# Altium integrated library Linear Technology Charge_Pump.IntLib: 599 symbols (part 22 of 29)
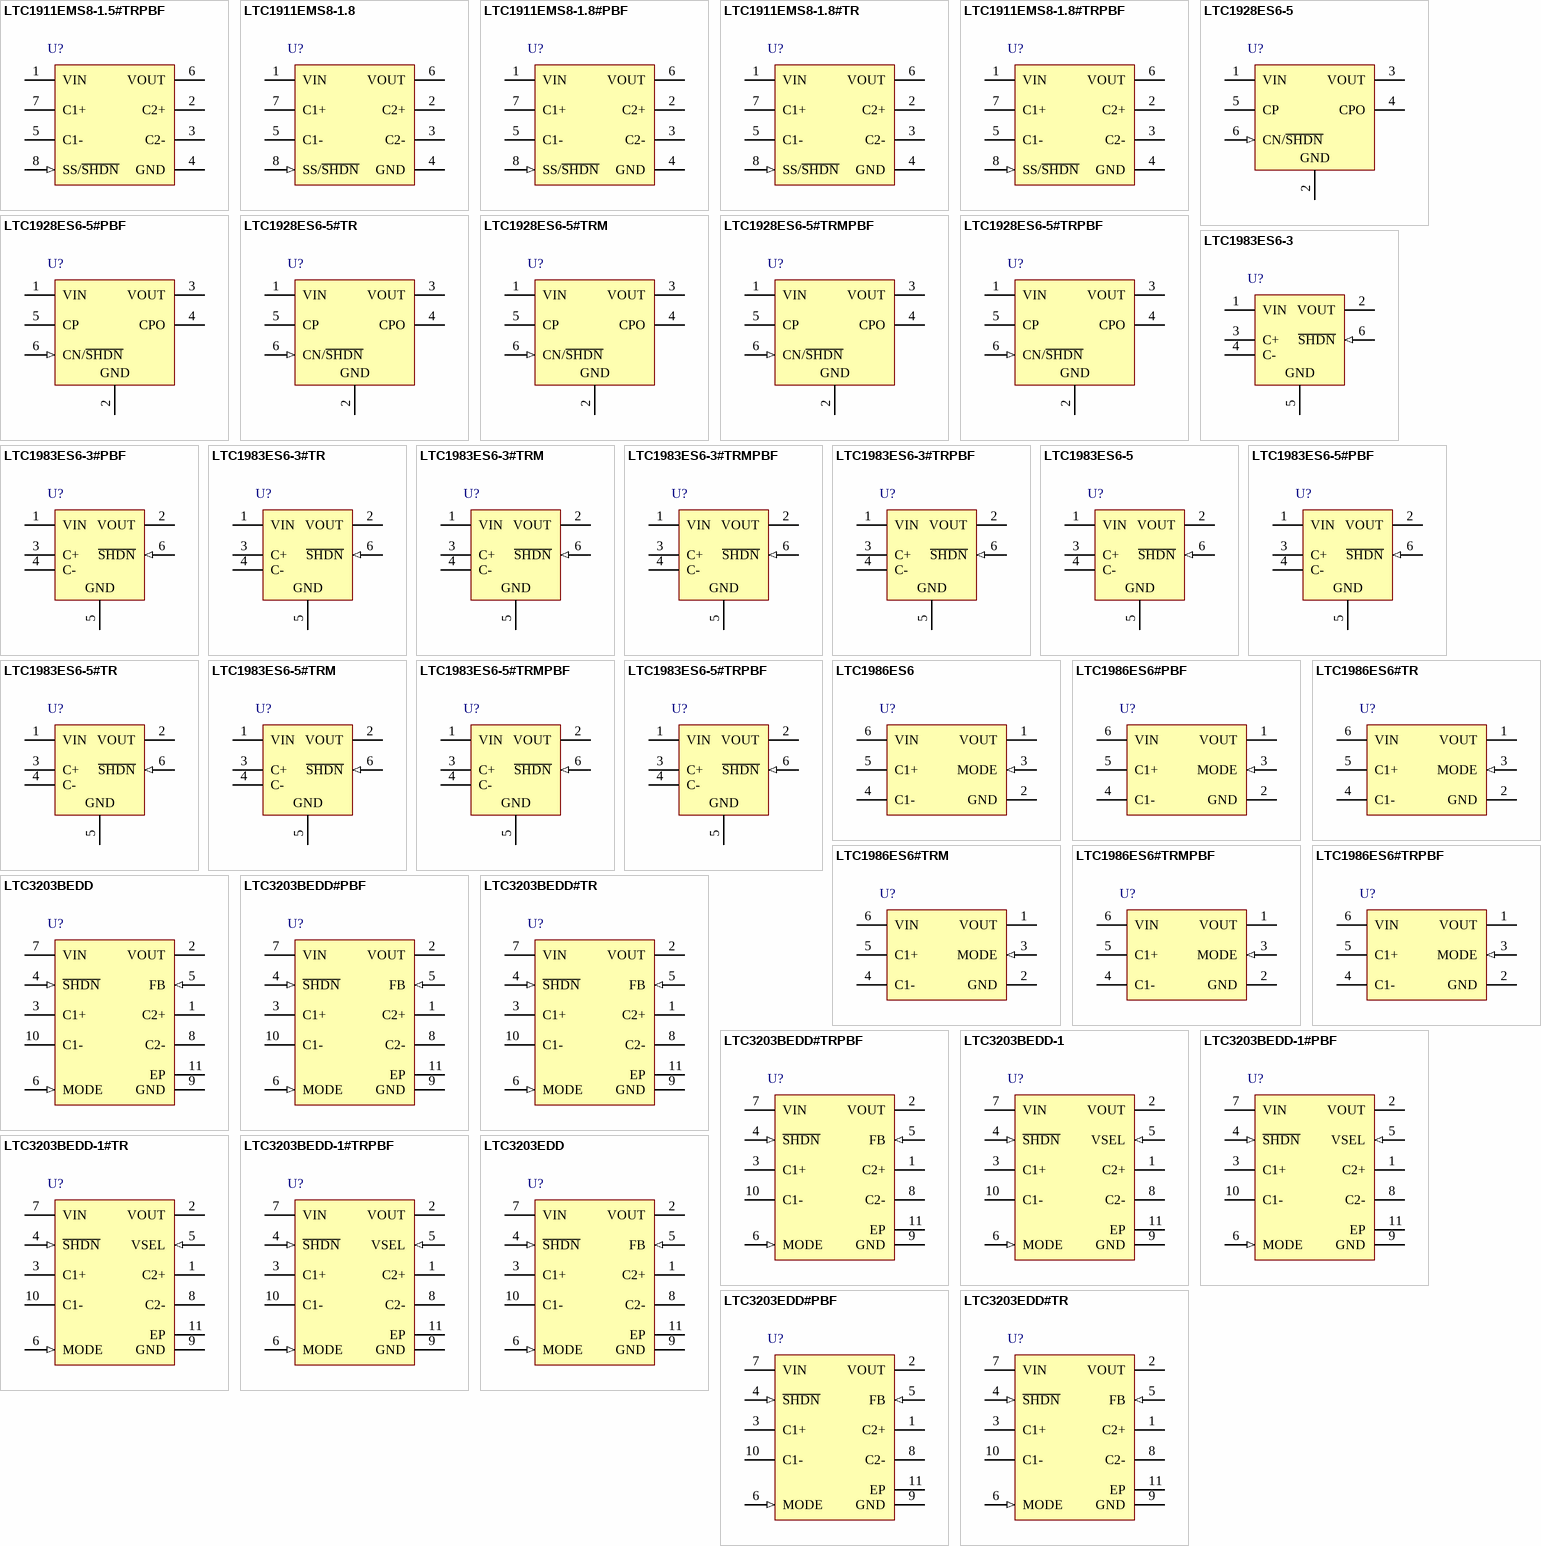
[diagram p37: symbols LTC1911EMS8-1.5#TRPBF to LTC3203EDD#TR]

## LTC1928ES6-5#TRM
designator U?
Doubler Charge Pump with Low Noise Linear Regulator, 2.7 to 4.4 V Vin, 5 V Vout, 6-pin SOT23 (S6-6), -40 to 85 degC, Mini Tape and Reel; Manufacturer: Linear Technology; PartNumber: LTC1928ES6-5#TRM; Frequency(kHz): 550; Ishutdown(uA): 4; Isupply(mA): 0.19; Max Iout(mA): 30; Vin Max(V): 4.4; Vin Min(V): 2.7; Voutput: 5 V; PackageVersion: Jun-10; PackageReference: S6-6; PackageDescription: 6-Pin Plastic TSOT-23, Body 2.9 x 1.63 mm, Pitch 0.95 mm; Supplier 1: Digi-Key; Supplier Part Number 1: LTC1928ES6-5#TRM-ND; Packing: Mini Tape and Reel; RoHS: FALSE; Mounting Technology: Surface Mount; Code_JEDEC: MO-193; ComponentLink1Description: Manufacturer URL; ComponentLink1URL: http://www.linear.com/; ComponentLink2Description: Datasheet; ComponentLink2URL: http://cds.linear.com/docs/en/datasheet/19285f.pdf; ComponentLink3Description: Package Specification; ComponentLink3URL: http://cds.linear.com/docs/en/packaging/SOT_6_05-08-1636.pdf
footprint LT-S6-6-TSOT-23_N (SOT23, 6-Leads, Body 2.9x1.75mm, Pitch 0.95mm, IPC Medium Density)
footprint LT-S6-6-TSOT-23_L (SOT23, 6-Leads, Body 2.9x1.75mm, Pitch 0.95mm, IPC High Density)
footprint LT-S6-6-TSOT-23_M (SOT23, 6-Leads, Body 2.9x1.75mm, Pitch 0.95mm, IPC Low Density)
pins: 1 VIN (power) "Input Voltage, 2.7V to 4.4V. VIN should be bypassed with a>=2uF low ESR capacitor as close to the pin as possible for best performance. A minimum capacitance value of 0.1uF is required.", 2 GND (power) "System Ground.", 3 VOUT (power) "Low Noise Regulated Output Voltage. VOUT should be bypassed with a>=2uF low ESR capacitor as close to the pin as possible for best performance. The VOUT voltage is internally set to 5V.", 4 CPO "Boosted Unregulated Voltage. Approximately 1.95VIN at low loads. Bypass with a>=2uF low ESR capacitor.", 5 CP "Flying Capacitor Positive Input.", 6 CN/~{SHDN} (in) "Flying Capacitor Negative Input and S\H\D\N\. When this pin is pulled to ground through a 100ohm resistor, the part will go into shutdown within approximately 30us."

## LTC1928ES6-5#TRMPBF
designator U?
Doubler Charge Pump with Low Noise Linear Regulator, 2.7 to 4.4 V Vin, 5 V Vout, 6-pin SOT23 (S6-6), -40 to 85 degC, Pb-Free, Mini Tape and Reel; Manufacturer: Linear Technology; PartNumber: LTC1928ES6-5#TRMPBF; Frequency(kHz): 550; Ishutdown(uA): 4; Isupply(mA): 0.19; Max Iout(mA): 30; Vin Max(V): 4.4; Vin Min(V): 2.7; Voutput: 5 V; PackageVersion: Jun-10; PackageReference: S6-6; PackageDescription: 6-Pin Plastic TSOT-23, Body 2.9 x 1.63 mm, Pitch 0.95 mm; Supplier 1: Digi-Key; Supplier Part Number 1: LTC1928ES6-5#TRMPBFTR-ND; Supplier 2: Digi-Key; Supplier Part Number 2: LTC1928ES6-5#TRMPBFCT-ND; Supplier 3: Digi-Key; Supplier Part Number 3: LTC1928ES6-5#TRMPBFDKR-ND; Packing: Mini Tape and Reel; RoHS: TRUE; Mounting Technology: Surface Mount; Code_JEDEC: MO-193; ComponentLink1Description: Manufacturer URL; ComponentLink1URL: http://www.linear.com/; ComponentLink2Description: Datasheet; ComponentLink2URL: http://cds.linear.com/docs/en/datasheet/19285f.pdf; ComponentLink3Description: Package Specification; ComponentLink3URL: http://cds.linear.com/docs/en/packaging/SOT_6_05-08-1636.pdf
footprint LT-S6-6-TSOT-23_N (SOT23, 6-Leads, Body 2.9x1.75mm, Pitch 0.95mm, IPC Medium Density)
footprint LT-S6-6-TSOT-23_L (SOT23, 6-Leads, Body 2.9x1.75mm, Pitch 0.95mm, IPC High Density)
footprint LT-S6-6-TSOT-23_M (SOT23, 6-Leads, Body 2.9x1.75mm, Pitch 0.95mm, IPC Low Density)
pins: 1 VIN (power) "Input Voltage, 2.7V to 4.4V. VIN should be bypassed with a>=2uF low ESR capacitor as close to the pin as possible for best performance. A minimum capacitance value of 0.1uF is required.", 2 GND (power) "System Ground.", 3 VOUT (power) "Low Noise Regulated Output Voltage. VOUT should be bypassed with a>=2uF low ESR capacitor as close to the pin as possible for best performance. The VOUT voltage is internally set to 5V.", 4 CPO "Boosted Unregulated Voltage. Approximately 1.95VIN at low loads. Bypass with a>=2uF low ESR capacitor.", 5 CP "Flying Capacitor Positive Input.", 6 CN/~{SHDN} (in) "Flying Capacitor Negative Input and S\H\D\N\. When this pin is pulled to ground through a 100ohm resistor, the part will go into shutdown within approximately 30us."

## LTC1928ES6-5#TRPBF
designator U?
Doubler Charge Pump with Low Noise Linear Regulator, 2.7 to 4.4 V Vin, 5 V Vout, 6-pin SOT23 (S6-6), -40 to 85 degC, Pb-Free, Tape and Reel; Manufacturer: Linear Technology; PartNumber: LTC1928ES6-5#TRPBF; Frequency(kHz): 550; Ishutdown(uA): 4; Isupply(mA): 0.19; Max Iout(mA): 30; Vin Max(V): 4.4; Vin Min(V): 2.7; Voutput: 5 V; PackageVersion: Jun-10; PackageReference: S6-6; PackageDescription: 6-Pin Plastic TSOT-23, Body 2.9 x 1.63 mm, Pitch 0.95 mm; Supplier 1: Digi-Key; Supplier Part Number 1: LTC1928ES6-5#TRPBF-ND; Packing: Tape and Reel; RoHS: TRUE; Mounting Technology: Surface Mount; Code_JEDEC: MO-193; ComponentLink1Description: Manufacturer URL; ComponentLink1URL: http://www.linear.com/; ComponentLink2Description: Datasheet; ComponentLink2URL: http://cds.linear.com/docs/en/datasheet/19285f.pdf; ComponentLink3Description: Package Specification; ComponentLink3URL: http://cds.linear.com/docs/en/packaging/SOT_6_05-08-1636.pdf
footprint LT-S6-6-TSOT-23_N (SOT23, 6-Leads, Body 2.9x1.75mm, Pitch 0.95mm, IPC Medium Density)
footprint LT-S6-6-TSOT-23_L (SOT23, 6-Leads, Body 2.9x1.75mm, Pitch 0.95mm, IPC High Density)
footprint LT-S6-6-TSOT-23_M (SOT23, 6-Leads, Body 2.9x1.75mm, Pitch 0.95mm, IPC Low Density)
pins: 1 VIN (power) "Input Voltage, 2.7V to 4.4V. VIN should be bypassed with a>=2uF low ESR capacitor as close to the pin as possible for best performance. A minimum capacitance value of 0.1uF is required.", 2 GND (power) "System Ground.", 3 VOUT (power) "Low Noise Regulated Output Voltage. VOUT should be bypassed with a>=2uF low ESR capacitor as close to the pin as possible for best performance. The VOUT voltage is internally set to 5V.", 4 CPO "Boosted Unregulated Voltage. Approximately 1.95VIN at low loads. Bypass with a>=2uF low ESR capacitor.", 5 CP "Flying Capacitor Positive Input.", 6 CN/~{SHDN} (in) "Flying Capacitor Negative Input and S\H\D\N\. When this pin is pulled to ground through a 100ohm resistor, the part will go into shutdown within approximately 30us."

## LTC1983ES6-3
designator U?
100 mA Regulated Charge-Pump Inverter, 3 to 5.5 V Vin, -3 V Vout, 6-pin SOT23 (S6-6), -40 to 85 degC; Manufacturer: Linear Technology; PartNumber: LTC1983ES6-3; Frequency(kHz): 900; Ishutdown(uA): 0.1; Isupply(mA): 0.025; Max Iout(mA): 100; Vin Max(V): 5.5; Vin Min(V): 3; Voutput: -3 V; DatasheetVersion: Rev. A; PackageVersion: Jun-10; PackageReference: S6-6; PackageDescription: 6-Pin Plastic TSOT-23, Body 2.9 x 1.63 mm, Pitch 0.95 mm; RoHS: FALSE; Mounting Technology: Surface Mount; Code_JEDEC: MO-193; ComponentLink1Description: Manufacturer URL; ComponentLink1URL: http://www.linear.com/; ComponentLink2Description: Datasheet; ComponentLink2URL: http://cds.linear.com/docs/en/datasheet/1983fa.pdf; ComponentLink3Description: Package Specification; ComponentLink3URL: http://cds.linear.com/docs/en/packaging/SOT_6_05-08-1636.pdf
footprint LT-S6-6-TSOT-23_N (SOT23, 6-Leads, Body 2.9x1.75mm, Pitch 0.95mm, IPC Medium Density)
footprint LT-S6-6-TSOT-23_L (SOT23, 6-Leads, Body 2.9x1.75mm, Pitch 0.95mm, IPC High Density)
footprint LT-S6-6-TSOT-23_M (SOT23, 6-Leads, Body 2.9x1.75mm, Pitch 0.95mm, IPC Low Density)
pins: 1 VIN (power) "Charge Pump Input Voltage. May be between 2.3V and 5.5V. VIN should be bypassed with a >= 4.7 uF low ESR capacitor as close as possible to the pin for best performance", 2 VOUT (power) "Regulated Output Voltage for the IC. VOUT should be bypassed with a >= 4.7 uF low ESR capacitor as close as possible to the pin for best performance", 3 C+ "Charge Pump Flying Capacitor Positive Terminal. This node is switched between VIN and GND (It is connected to VCC during shutdown)", 4 C- "Charge Pump Flying Capacitor Negative Terminal. This node is switched between GND and VOUT (It is connected to GND during shutdown)", 5 GND (power) "Signal and Power Ground for the 6-Pin SOT-23 package. This pin should be tied to a ground plane for best performance", 6 ~{SHDN} (in) "Shutdown. Grounding this pin shuts down the IC. Tie to VIN to enable. This pin should not be pulled above the VIN voltage or below GND"

## LTC1983ES6-3#PBF
designator U?
100 mA Regulated Charge-Pump Inverter, 3 to 5.5 V Vin, -3 V Vout, 6-pin SOT23 (S6-6), -40 to 85 degC, Pb-Free; Manufacturer: Linear Technology; PartNumber: LTC1983ES6-3#PBF; Frequency(kHz): 900; Ishutdown(uA): 0.1; Isupply(mA): 0.025; Max Iout(mA): 100; Vin Max(V): 5.5; Vin Min(V): 3; Voutput: -3 V; DatasheetVersion: Rev. A; PackageVersion: Jun-10; PackageReference: S6-6; PackageDescription: 6-Pin Plastic TSOT-23, Body 2.9 x 1.63 mm, Pitch 0.95 mm; Supplier 1: Farnell; Supplier Part Number 1: 2295020; Supplier 2: Newark; Supplier Part Number 2: 25R3033; RoHS: TRUE; Mounting Technology: Surface Mount; Code_JEDEC: MO-193; ComponentLink1Description: Manufacturer URL; ComponentLink1URL: http://www.linear.com/; ComponentLink2Description: Datasheet; ComponentLink2URL: http://cds.linear.com/docs/en/datasheet/1983fa.pdf; ComponentLink3Description: Package Specification; ComponentLink3URL: http://cds.linear.com/docs/en/packaging/SOT_6_05-08-1636.pdf
footprint LT-S6-6-TSOT-23_N (SOT23, 6-Leads, Body 2.9x1.75mm, Pitch 0.95mm, IPC Medium Density)
footprint LT-S6-6-TSOT-23_L (SOT23, 6-Leads, Body 2.9x1.75mm, Pitch 0.95mm, IPC High Density)
footprint LT-S6-6-TSOT-23_M (SOT23, 6-Leads, Body 2.9x1.75mm, Pitch 0.95mm, IPC Low Density)
pins: 1 VIN (power) "Charge Pump Input Voltage. May be between 2.3V and 5.5V. VIN should be bypassed with a >= 4.7 uF low ESR capacitor as close as possible to the pin for best performance", 2 VOUT (power) "Regulated Output Voltage for the IC. VOUT should be bypassed with a >= 4.7 uF low ESR capacitor as close as possible to the pin for best performance", 3 C+ "Charge Pump Flying Capacitor Positive Terminal. This node is switched between VIN and GND (It is connected to VCC during shutdown)", 4 C- "Charge Pump Flying Capacitor Negative Terminal. This node is switched between GND and VOUT (It is connected to GND during shutdown)", 5 GND (power) "Signal and Power Ground for the 6-Pin SOT-23 package. This pin should be tied to a ground plane for best performance", 6 ~{SHDN} (in) "Shutdown. Grounding this pin shuts down the IC. Tie to VIN to enable. This pin should not be pulled above the VIN voltage or below GND"

## LTC1983ES6-3#TR
designator U?
100 mA Regulated Charge-Pump Inverter, 3 to 5.5 V Vin, -3 V Vout, 6-pin SOT23 (S6-6), -40 to 85 degC, Tape and Reel; Manufacturer: Linear Technology; PartNumber: LTC1983ES6-3#TR; Frequency(kHz): 900; Ishutdown(uA): 0.1; Isupply(mA): 0.025; Max Iout(mA): 100; Vin Max(V): 5.5; Vin Min(V): 3; Voutput: -3 V; DatasheetVersion: Rev. A; PackageVersion: Jun-10; PackageReference: S6-6; PackageDescription: 6-Pin Plastic TSOT-23, Body 2.9 x 1.63 mm, Pitch 0.95 mm; Supplier 1: Digi-Key; Supplier Part Number 1: LTC1983ES6-3TR-ND; Packing: Tape and Reel; RoHS: FALSE; Mounting Technology: Surface Mount; Code_JEDEC: MO-193; ComponentLink1Description: Manufacturer URL; ComponentLink1URL: http://www.linear.com/; ComponentLink2Description: Datasheet; ComponentLink2URL: http://cds.linear.com/docs/en/datasheet/1983fa.pdf; ComponentLink3Description: Package Specification; ComponentLink3URL: http://cds.linear.com/docs/en/packaging/SOT_6_05-08-1636.pdf
footprint LT-S6-6-TSOT-23_N (SOT23, 6-Leads, Body 2.9x1.75mm, Pitch 0.95mm, IPC Medium Density)
footprint LT-S6-6-TSOT-23_L (SOT23, 6-Leads, Body 2.9x1.75mm, Pitch 0.95mm, IPC High Density)
footprint LT-S6-6-TSOT-23_M (SOT23, 6-Leads, Body 2.9x1.75mm, Pitch 0.95mm, IPC Low Density)
pins: 1 VIN (power) "Charge Pump Input Voltage. May be between 2.3V and 5.5V. VIN should be bypassed with a >= 4.7 uF low ESR capacitor as close as possible to the pin for best performance", 2 VOUT (power) "Regulated Output Voltage for the IC. VOUT should be bypassed with a >= 4.7 uF low ESR capacitor as close as possible to the pin for best performance", 3 C+ "Charge Pump Flying Capacitor Positive Terminal. This node is switched between VIN and GND (It is connected to VCC during shutdown)", 4 C- "Charge Pump Flying Capacitor Negative Terminal. This node is switched between GND and VOUT (It is connected to GND during shutdown)", 5 GND (power) "Signal and Power Ground for the 6-Pin SOT-23 package. This pin should be tied to a ground plane for best performance", 6 ~{SHDN} (in) "Shutdown. Grounding this pin shuts down the IC. Tie to VIN to enable. This pin should not be pulled above the VIN voltage or below GND"

## LTC1983ES6-3#TRM
designator U?
100 mA Regulated Charge-Pump Inverter, 3 to 5.5 V Vin, -3 V Vout, 6-pin SOT23 (S6-6), -40 to 85 degC, Mini Tape and Reel; Manufacturer: Linear Technology; PartNumber: LTC1983ES6-3#TRM; Frequency(kHz): 900; Ishutdown(uA): 0.1; Isupply(mA): 0.025; Max Iout(mA): 100; Vin Max(V): 5.5; Vin Min(V): 3; Voutput: -3 V; DatasheetVersion: Rev. A; PackageVersion: Jun-10; PackageReference: S6-6; PackageDescription: 6-Pin Plastic TSOT-23, Body 2.9 x 1.63 mm, Pitch 0.95 mm; Supplier 1: Digi-Key; Supplier Part Number 1: LTC1983ES6-3#TRMTR-ND; Supplier 2: Digi-Key; Supplier Part Number 2: LTC1983ES6-3#TRMCT-ND; Packing: Mini Tape and Reel; RoHS: FALSE; Mounting Technology: Surface Mount; Code_JEDEC: MO-193; ComponentLink1Description: Manufacturer URL; ComponentLink1URL: http://www.linear.com/; ComponentLink2Description: Datasheet; ComponentLink2URL: http://cds.linear.com/docs/en/datasheet/1983fa.pdf; ComponentLink3Description: Package Specification; ComponentLink3URL: http://cds.linear.com/docs/en/packaging/SOT_6_05-08-1636.pdf
footprint LT-S6-6-TSOT-23_N (SOT23, 6-Leads, Body 2.9x1.75mm, Pitch 0.95mm, IPC Medium Density)
footprint LT-S6-6-TSOT-23_L (SOT23, 6-Leads, Body 2.9x1.75mm, Pitch 0.95mm, IPC High Density)
footprint LT-S6-6-TSOT-23_M (SOT23, 6-Leads, Body 2.9x1.75mm, Pitch 0.95mm, IPC Low Density)
pins: 1 VIN (power) "Charge Pump Input Voltage. May be between 2.3V and 5.5V. VIN should be bypassed with a >= 4.7 uF low ESR capacitor as close as possible to the pin for best performance", 2 VOUT (power) "Regulated Output Voltage for the IC. VOUT should be bypassed with a >= 4.7 uF low ESR capacitor as close as possible to the pin for best performance", 3 C+ "Charge Pump Flying Capacitor Positive Terminal. This node is switched between VIN and GND (It is connected to VCC during shutdown)", 4 C- "Charge Pump Flying Capacitor Negative Terminal. This node is switched between GND and VOUT (It is connected to GND during shutdown)", 5 GND (power) "Signal and Power Ground for the 6-Pin SOT-23 package. This pin should be tied to a ground plane for best performance", 6 ~{SHDN} (in) "Shutdown. Grounding this pin shuts down the IC. Tie to VIN to enable. This pin should not be pulled above the VIN voltage or below GND"

## LTC1983ES6-3#TRMPBF
designator U?
100 mA Regulated Charge-Pump Inverter, 3 to 5.5 V Vin, -3 V Vout, 6-pin SOT23 (S6-6), -40 to 85 degC, Pb-Free, Mini Tape and Reel; Manufacturer: Linear Technology; PartNumber: LTC1983ES6-3#TRMPBF; Frequency(kHz): 900; Ishutdown(uA): 0.1; Isupply(mA): 0.025; Max Iout(mA): 100; Vin Max(V): 5.5; Vin Min(V): 3; Voutput: -3 V; DatasheetVersion: Rev. A; PackageVersion: Jun-10; PackageReference: S6-6; PackageDescription: 6-Pin Plastic TSOT-23, Body 2.9 x 1.63 mm, Pitch 0.95 mm; Supplier 1: Digi-Key; Supplier Part Number 1: LTC1983ES6-3#TRMPBFTR-ND; Supplier 2: Digi-Key; Supplier Part Number 2: LTC1983ES6-3#TRMPBFCT-ND; Supplier 3: Digi-Key; Supplier Part Number 3: LTC1983ES6-3#TRMPBFDKR-ND; Supplier 4: Newark; Supplier Part Number 4: 56M4421; Packing: Mini Tape and Reel; RoHS: TRUE; Mounting Technology: Surface Mount; Code_JEDEC: MO-193; ComponentLink1Description: Manufacturer URL; ComponentLink1URL: http://www.linear.com/; ComponentLink2Description: Datasheet; ComponentLink2URL: http://cds.linear.com/docs/en/datasheet/1983fa.pdf; ComponentLink3Description: Package Specification; ComponentLink3URL: http://cds.linear.com/docs/en/packaging/SOT_6_05-08-1636.pdf
footprint LT-S6-6-TSOT-23_N (SOT23, 6-Leads, Body 2.9x1.75mm, Pitch 0.95mm, IPC Medium Density)
footprint LT-S6-6-TSOT-23_L (SOT23, 6-Leads, Body 2.9x1.75mm, Pitch 0.95mm, IPC High Density)
footprint LT-S6-6-TSOT-23_M (SOT23, 6-Leads, Body 2.9x1.75mm, Pitch 0.95mm, IPC Low Density)
pins: 1 VIN (power) "Charge Pump Input Voltage. May be between 2.3V and 5.5V. VIN should be bypassed with a >= 4.7 uF low ESR capacitor as close as possible to the pin for best performance", 2 VOUT (power) "Regulated Output Voltage for the IC. VOUT should be bypassed with a >= 4.7 uF low ESR capacitor as close as possible to the pin for best performance", 3 C+ "Charge Pump Flying Capacitor Positive Terminal. This node is switched between VIN and GND (It is connected to VCC during shutdown)", 4 C- "Charge Pump Flying Capacitor Negative Terminal. This node is switched between GND and VOUT (It is connected to GND during shutdown)", 5 GND (power) "Signal and Power Ground for the 6-Pin SOT-23 package. This pin should be tied to a ground plane for best performance", 6 ~{SHDN} (in) "Shutdown. Grounding this pin shuts down the IC. Tie to VIN to enable. This pin should not be pulled above the VIN voltage or below GND"

## LTC1983ES6-3#TRPBF
designator U?
100 mA Regulated Charge-Pump Inverter, 3 to 5.5 V Vin, -3 V Vout, 6-pin SOT23 (S6-6), -40 to 85 degC, Pb-Free, Tape and Reel; Manufacturer: Linear Technology; PartNumber: LTC1983ES6-3#TRPBF; Frequency(kHz): 900; Ishutdown(uA): 0.1; Isupply(mA): 0.025; Max Iout(mA): 100; Vin Max(V): 5.5; Vin Min(V): 3; Voutput: -3 V; DatasheetVersion: Rev. A; PackageVersion: Jun-10; PackageReference: S6-6; PackageDescription: 6-Pin Plastic TSOT-23, Body 2.9 x 1.63 mm, Pitch 0.95 mm; Supplier 1: Digi-Key; Supplier Part Number 1: LTC1983ES6-3#TRPBF-ND; Supplier 2: Newark; Supplier Part Number 2: 56M4422; Packing: Tape and Reel; RoHS: TRUE; Mounting Technology: Surface Mount; Code_JEDEC: MO-193; ComponentLink1Description: Manufacturer URL; ComponentLink1URL: http://www.linear.com/; ComponentLink2Description: Datasheet; ComponentLink2URL: http://cds.linear.com/docs/en/datasheet/1983fa.pdf; ComponentLink3Description: Package Specification; ComponentLink3URL: http://cds.linear.com/docs/en/packaging/SOT_6_05-08-1636.pdf
footprint LT-S6-6-TSOT-23_N (SOT23, 6-Leads, Body 2.9x1.75mm, Pitch 0.95mm, IPC Medium Density)
footprint LT-S6-6-TSOT-23_L (SOT23, 6-Leads, Body 2.9x1.75mm, Pitch 0.95mm, IPC High Density)
footprint LT-S6-6-TSOT-23_M (SOT23, 6-Leads, Body 2.9x1.75mm, Pitch 0.95mm, IPC Low Density)
pins: 1 VIN (power) "Charge Pump Input Voltage. May be between 2.3V and 5.5V. VIN should be bypassed with a >= 4.7 uF low ESR capacitor as close as possible to the pin for best performance", 2 VOUT (power) "Regulated Output Voltage for the IC. VOUT should be bypassed with a >= 4.7 uF low ESR capacitor as close as possible to the pin for best performance", 3 C+ "Charge Pump Flying Capacitor Positive Terminal. This node is switched between VIN and GND (It is connected to VCC during shutdown)", 4 C- "Charge Pump Flying Capacitor Negative Terminal. This node is switched between GND and VOUT (It is connected to GND during shutdown)", 5 GND (power) "Signal and Power Ground for the 6-Pin SOT-23 package. This pin should be tied to a ground plane for best performance", 6 ~{SHDN} (in) "Shutdown. Grounding this pin shuts down the IC. Tie to VIN to enable. This pin should not be pulled above the VIN voltage or below GND"

## LTC1983ES6-5
designator U?
100 mA Regulated Charge-Pump Inverter, 5 to 5.5 V Vin, -5 V Vout, 6-pin SOT23 (S6-6), -40 to 85 degC; Manufacturer: Linear Technology; PartNumber: LTC1983ES6-5; Frequency(kHz): 900; Ishutdown(uA): 0.1; Isupply(mA): 0.025; Max Iout(mA): 100; Vin Max(V): 5.5; Vin Min(V): 5; Voutput: -5 V; DatasheetVersion: Rev. A; PackageVersion: Jun-10; PackageReference: S6-6; PackageDescription: 6-Pin Plastic TSOT-23, Body 2.9 x 1.63 mm, Pitch 0.95 mm; RoHS: FALSE; Mounting Technology: Surface Mount; Code_JEDEC: MO-193; ComponentLink1Description: Manufacturer URL; ComponentLink1URL: http://www.linear.com/; ComponentLink2Description: Datasheet; ComponentLink2URL: http://cds.linear.com/docs/en/datasheet/1983fa.pdf; ComponentLink3Description: Package Specification; ComponentLink3URL: http://cds.linear.com/docs/en/packaging/SOT_6_05-08-1636.pdf
footprint LT-S6-6-TSOT-23_N (SOT23, 6-Leads, Body 2.9x1.75mm, Pitch 0.95mm, IPC Medium Density)
footprint LT-S6-6-TSOT-23_L (SOT23, 6-Leads, Body 2.9x1.75mm, Pitch 0.95mm, IPC High Density)
footprint LT-S6-6-TSOT-23_M (SOT23, 6-Leads, Body 2.9x1.75mm, Pitch 0.95mm, IPC Low Density)
pins: 1 VIN (power) "Charge Pump Input Voltage. May be between 2.3V and 5.5V. VIN should be bypassed with a >= 4.7 uF low ESR capacitor as close as possible to the pin for best performance", 2 VOUT (power) "Regulated Output Voltage for the IC. VOUT should be bypassed with a >= 4.7 uF low ESR capacitor as close as possible to the pin for best performance", 3 C+ "Charge Pump Flying Capacitor Positive Terminal. This node is switched between VIN and GND (It is connected to VCC during shutdown)", 4 C- "Charge Pump Flying Capacitor Negative Terminal. This node is switched between GND and VOUT (It is connected to GND during shutdown)", 5 GND (power) "Signal and Power Ground for the 6-Pin SOT-23 package. This pin should be tied to a ground plane for best performance", 6 ~{SHDN} (in) "Shutdown. Grounding this pin shuts down the IC. Tie to VIN to enable. This pin should not be pulled above the VIN voltage or below GND"

## LTC1983ES6-5#PBF
designator U?
100 mA Regulated Charge-Pump Inverter, 5 to 5.5 V Vin, -5 V Vout, 6-pin SOT23 (S6-6), -40 to 85 degC, Pb-Free; Manufacturer: Linear Technology; PartNumber: LTC1983ES6-5#PBF; Frequency(kHz): 900; Ishutdown(uA): 0.1; Isupply(mA): 0.025; Max Iout(mA): 100; Vin Max(V): 5.5; Vin Min(V): 5; Voutput: -5 V; DatasheetVersion: Rev. A; PackageVersion: Jun-10; PackageReference: S6-6; PackageDescription: 6-Pin Plastic TSOT-23, Body 2.9 x 1.63 mm, Pitch 0.95 mm; Supplier 1: Farnell; Supplier Part Number 1: 1858583; Supplier 2: Newark; Supplier Part Number 2: 25R3034; RoHS: TRUE; Mounting Technology: Surface Mount; Code_JEDEC: MO-193; ComponentLink1Description: Manufacturer URL; ComponentLink1URL: http://www.linear.com/; ComponentLink2Description: Datasheet; ComponentLink2URL: http://cds.linear.com/docs/en/datasheet/1983fa.pdf; ComponentLink3Description: Package Specification; ComponentLink3URL: http://cds.linear.com/docs/en/packaging/SOT_6_05-08-1636.pdf
footprint LT-S6-6-TSOT-23_N (SOT23, 6-Leads, Body 2.9x1.75mm, Pitch 0.95mm, IPC Medium Density)
footprint LT-S6-6-TSOT-23_L (SOT23, 6-Leads, Body 2.9x1.75mm, Pitch 0.95mm, IPC High Density)
footprint LT-S6-6-TSOT-23_M (SOT23, 6-Leads, Body 2.9x1.75mm, Pitch 0.95mm, IPC Low Density)
pins: 1 VIN (power) "Charge Pump Input Voltage. May be between 2.3V and 5.5V. VIN should be bypassed with a >= 4.7 uF low ESR capacitor as close as possible to the pin for best performance", 2 VOUT (power) "Regulated Output Voltage for the IC. VOUT should be bypassed with a >= 4.7 uF low ESR capacitor as close as possible to the pin for best performance", 3 C+ "Charge Pump Flying Capacitor Positive Terminal. This node is switched between VIN and GND (It is connected to VCC during shutdown)", 4 C- "Charge Pump Flying Capacitor Negative Terminal. This node is switched between GND and VOUT (It is connected to GND during shutdown)", 5 GND (power) "Signal and Power Ground for the 6-Pin SOT-23 package. This pin should be tied to a ground plane for best performance", 6 ~{SHDN} (in) "Shutdown. Grounding this pin shuts down the IC. Tie to VIN to enable. This pin should not be pulled above the VIN voltage or below GND"

## LTC1983ES6-5#TR
designator U?
100 mA Regulated Charge-Pump Inverter, 5 to 5.5 V Vin, -5 V Vout, 6-pin SOT23 (S6-6), -40 to 85 degC, Tape and Reel; Manufacturer: Linear Technology; PartNumber: LTC1983ES6-5#TR; Frequency(kHz): 900; Ishutdown(uA): 0.1; Isupply(mA): 0.025; Max Iout(mA): 100; Vin Max(V): 5.5; Vin Min(V): 5; Voutput: -5 V; DatasheetVersion: Rev. A; PackageVersion: Jun-10; PackageReference: S6-6; PackageDescription: 6-Pin Plastic TSOT-23, Body 2.9 x 1.63 mm, Pitch 0.95 mm; Supplier 1: Digi-Key; Supplier Part Number 1: LTC1983ES6-5TR-ND; Supplier 2: Newark; Supplier Part Number 2: 56M4423; Packing: Tape and Reel; RoHS: FALSE; Mounting Technology: Surface Mount; Code_JEDEC: MO-193; ComponentLink1Description: Manufacturer URL; ComponentLink1URL: http://www.linear.com/; ComponentLink2Description: Datasheet; ComponentLink2URL: http://cds.linear.com/docs/en/datasheet/1983fa.pdf; ComponentLink3Description: Package Specification; ComponentLink3URL: http://cds.linear.com/docs/en/packaging/SOT_6_05-08-1636.pdf
footprint LT-S6-6-TSOT-23_N (SOT23, 6-Leads, Body 2.9x1.75mm, Pitch 0.95mm, IPC Medium Density)
footprint LT-S6-6-TSOT-23_L (SOT23, 6-Leads, Body 2.9x1.75mm, Pitch 0.95mm, IPC High Density)
footprint LT-S6-6-TSOT-23_M (SOT23, 6-Leads, Body 2.9x1.75mm, Pitch 0.95mm, IPC Low Density)
pins: 1 VIN (power) "Charge Pump Input Voltage. May be between 2.3V and 5.5V. VIN should be bypassed with a >= 4.7 uF low ESR capacitor as close as possible to the pin for best performance", 2 VOUT (power) "Regulated Output Voltage for the IC. VOUT should be bypassed with a >= 4.7 uF low ESR capacitor as close as possible to the pin for best performance", 3 C+ "Charge Pump Flying Capacitor Positive Terminal. This node is switched between VIN and GND (It is connected to VCC during shutdown)", 4 C- "Charge Pump Flying Capacitor Negative Terminal. This node is switched between GND and VOUT (It is connected to GND during shutdown)", 5 GND (power) "Signal and Power Ground for the 6-Pin SOT-23 package. This pin should be tied to a ground plane for best performance", 6 ~{SHDN} (in) "Shutdown. Grounding this pin shuts down the IC. Tie to VIN to enable. This pin should not be pulled above the VIN voltage or below GND"

## LTC1983ES6-5#TRM
designator U?
100 mA Regulated Charge-Pump Inverter, 5 to 5.5 V Vin, -5 V Vout, 6-pin SOT23 (S6-6), -40 to 85 degC, Mini Tape and Reel; Manufacturer: Linear Technology; PartNumber: LTC1983ES6-5#TRM; Frequency(kHz): 900; Ishutdown(uA): 0.1; Isupply(mA): 0.025; Max Iout(mA): 100; Vin Max(V): 5.5; Vin Min(V): 5; Voutput: -5 V; DatasheetVersion: Rev. A; PackageVersion: Jun-10; PackageReference: S6-6; PackageDescription: 6-Pin Plastic TSOT-23, Body 2.9 x 1.63 mm, Pitch 0.95 mm; Supplier 1: Digi-Key; Supplier Part Number 1: LTC1983ES6-5#TRMTR-ND; Supplier 2: Digi-Key; Supplier Part Number 2: LTC1983ES6-5#TRMCT-ND; Supplier 3: Newark; Supplier Part Number 3: 56M4424; Packing: Mini Tape and Reel; RoHS: FALSE; Mounting Technology: Surface Mount; Code_JEDEC: MO-193; ComponentLink1Description: Manufacturer URL; ComponentLink1URL: http://www.linear.com/; ComponentLink2Description: Datasheet; ComponentLink2URL: http://cds.linear.com/docs/en/datasheet/1983fa.pdf; ComponentLink3Description: Package Specification; ComponentLink3URL: http://cds.linear.com/docs/en/packaging/SOT_6_05-08-1636.pdf
footprint LT-S6-6-TSOT-23_N (SOT23, 6-Leads, Body 2.9x1.75mm, Pitch 0.95mm, IPC Medium Density)
footprint LT-S6-6-TSOT-23_L (SOT23, 6-Leads, Body 2.9x1.75mm, Pitch 0.95mm, IPC High Density)
footprint LT-S6-6-TSOT-23_M (SOT23, 6-Leads, Body 2.9x1.75mm, Pitch 0.95mm, IPC Low Density)
pins: 1 VIN (power) "Charge Pump Input Voltage. May be between 2.3V and 5.5V. VIN should be bypassed with a >= 4.7 uF low ESR capacitor as close as possible to the pin for best performance", 2 VOUT (power) "Regulated Output Voltage for the IC. VOUT should be bypassed with a >= 4.7 uF low ESR capacitor as close as possible to the pin for best performance", 3 C+ "Charge Pump Flying Capacitor Positive Terminal. This node is switched between VIN and GND (It is connected to VCC during shutdown)", 4 C- "Charge Pump Flying Capacitor Negative Terminal. This node is switched between GND and VOUT (It is connected to GND during shutdown)", 5 GND (power) "Signal and Power Ground for the 6-Pin SOT-23 package. This pin should be tied to a ground plane for best performance", 6 ~{SHDN} (in) "Shutdown. Grounding this pin shuts down the IC. Tie to VIN to enable. This pin should not be pulled above the VIN voltage or below GND"

## LTC1983ES6-5#TRMPBF
designator U?
100 mA Regulated Charge-Pump Inverter, 5 to 5.5 V Vin, -5 V Vout, 6-pin SOT23 (S6-6), -40 to 85 degC, Pb-Free, Mini Tape and Reel; Manufacturer: Linear Technology; PartNumber: LTC1983ES6-5#TRMPBF; Frequency(kHz): 900; Ishutdown(uA): 0.1; Isupply(mA): 0.025; Max Iout(mA): 100; Vin Max(V): 5.5; Vin Min(V): 5; Voutput: -5 V; DatasheetVersion: Rev. A; PackageVersion: Jun-10; PackageReference: S6-6; PackageDescription: 6-Pin Plastic TSOT-23, Body 2.9 x 1.63 mm, Pitch 0.95 mm; Supplier 1: Digi-Key; Supplier Part Number 1: LTC1983ES6-5#TRMPBFTR-ND; Supplier 2: Digi-Key; Supplier Part Number 2: LTC1983ES6-5#TRMPBFCT-ND; Supplier 3: Digi-Key; Supplier Part Number 3: LTC1983ES6-5#TRMPBFDKR-ND; Supplier 4: Farnell; Supplier Part Number 4: 1663871RL; Supplier 5: Farnell; Supplier Part Number 5: 1663871; Supplier 6: Newark; Supplier Part Number 6: 56M4425; Packing: Mini Tape and Reel; RoHS: TRUE; Mounting Technology: Surface Mount; Code_JEDEC: MO-193; ComponentLink1Description: Manufacturer URL; ComponentLink1URL: http://www.linear.com/; ComponentLink2Description: Datasheet; ComponentLink2URL: http://cds.linear.com/docs/en/datasheet/1983fa.pdf; ComponentLink3Description: Package Specification; ComponentLink3URL: http://cds.linear.com/docs/en/packaging/SOT_6_05-08-1636.pdf
footprint LT-S6-6-TSOT-23_N (SOT23, 6-Leads, Body 2.9x1.75mm, Pitch 0.95mm, IPC Medium Density)
footprint LT-S6-6-TSOT-23_L (SOT23, 6-Leads, Body 2.9x1.75mm, Pitch 0.95mm, IPC High Density)
footprint LT-S6-6-TSOT-23_M (SOT23, 6-Leads, Body 2.9x1.75mm, Pitch 0.95mm, IPC Low Density)
pins: 1 VIN (power) "Charge Pump Input Voltage. May be between 2.3V and 5.5V. VIN should be bypassed with a >= 4.7 uF low ESR capacitor as close as possible to the pin for best performance", 2 VOUT (power) "Regulated Output Voltage for the IC. VOUT should be bypassed with a >= 4.7 uF low ESR capacitor as close as possible to the pin for best performance", 3 C+ "Charge Pump Flying Capacitor Positive Terminal. This node is switched between VIN and GND (It is connected to VCC during shutdown)", 4 C- "Charge Pump Flying Capacitor Negative Terminal. This node is switched between GND and VOUT (It is connected to GND during shutdown)", 5 GND (power) "Signal and Power Ground for the 6-Pin SOT-23 package. This pin should be tied to a ground plane for best performance", 6 ~{SHDN} (in) "Shutdown. Grounding this pin shuts down the IC. Tie to VIN to enable. This pin should not be pulled above the VIN voltage or below GND"

## LTC1983ES6-5#TRPBF
designator U?
100 mA Regulated Charge-Pump Inverter, 5 to 5.5 V Vin, -5 V Vout, 6-pin SOT23 (S6-6), -40 to 85 degC, Pb-Free, Tape and Reel; Manufacturer: Linear Technology; PartNumber: LTC1983ES6-5#TRPBF; Frequency(kHz): 900; Ishutdown(uA): 0.1; Isupply(mA): 0.025; Max Iout(mA): 100; Vin Max(V): 5.5; Vin Min(V): 5; Voutput: -5 V; DatasheetVersion: Rev. A; PackageVersion: Jun-10; PackageReference: S6-6; PackageDescription: 6-Pin Plastic TSOT-23, Body 2.9 x 1.63 mm, Pitch 0.95 mm; Supplier 1: Digi-Key; Supplier Part Number 1: LTC1983ES6-5#TRPBF-ND; Supplier 2: Newark; Supplier Part Number 2: 56M4426; Packing: Tape and Reel; RoHS: TRUE; Mounting Technology: Surface Mount; Code_JEDEC: MO-193; ComponentLink1Description: Manufacturer URL; ComponentLink1URL: http://www.linear.com/; ComponentLink2Description: Datasheet; ComponentLink2URL: http://cds.linear.com/docs/en/datasheet/1983fa.pdf; ComponentLink3Description: Package Specification; ComponentLink3URL: http://cds.linear.com/docs/en/packaging/SOT_6_05-08-1636.pdf
footprint LT-S6-6-TSOT-23_N (SOT23, 6-Leads, Body 2.9x1.75mm, Pitch 0.95mm, IPC Medium Density)
footprint LT-S6-6-TSOT-23_L (SOT23, 6-Leads, Body 2.9x1.75mm, Pitch 0.95mm, IPC High Density)
footprint LT-S6-6-TSOT-23_M (SOT23, 6-Leads, Body 2.9x1.75mm, Pitch 0.95mm, IPC Low Density)
pins: 1 VIN (power) "Charge Pump Input Voltage. May be between 2.3V and 5.5V. VIN should be bypassed with a >= 4.7 uF low ESR capacitor as close as possible to the pin for best performance", 2 VOUT (power) "Regulated Output Voltage for the IC. VOUT should be bypassed with a >= 4.7 uF low ESR capacitor as close as possible to the pin for best performance", 3 C+ "Charge Pump Flying Capacitor Positive Terminal. This node is switched between VIN and GND (It is connected to VCC during shutdown)", 4 C- "Charge Pump Flying Capacitor Negative Terminal. This node is switched between GND and VOUT (It is connected to GND during shutdown)", 5 GND (power) "Signal and Power Ground for the 6-Pin SOT-23 package. This pin should be tied to a ground plane for best performance", 6 ~{SHDN} (in) "Shutdown. Grounding this pin shuts down the IC. Tie to VIN to enable. This pin should not be pulled above the VIN voltage or below GND"

## LTC1986ES6
designator U?
3 V / 5 V SIM Power Supply, 2.6 to 4.4 V Vin, 5 V Vout, 6-pin SOT23 (S6-6), -40 to 85 degC; Manufacturer: Linear Technology; PartNumber: LTC1986ES6; Frequency(kHz): 900; Ishutdown(uA): 0.001; Isupply(mA): 0.014; Max Iout(mA): 10; Vin Max(V): 4.4; Vin Min(V): 2.6; Voutput: 5V, Vin; DatasheetVersion: Rev. A; PackageVersion: Jun-10; PackageReference: S6-6; PackageDescription: 6-Pin Plastic TSOT-23, Body 2.9 x 1.63 mm, Pitch 0.95 mm; RoHS: FALSE; Mounting Technology: Surface Mount; Code_JEDEC: MO-193; ComponentLink1Description: Manufacturer URL; ComponentLink1URL: http://www.linear.com/; ComponentLink2Description: Datasheet; ComponentLink2URL: http://cds.linear.com/docs/en/datasheet/1986fa.pdf; ComponentLink3Description: Package Specification; ComponentLink3URL: http://cds.linear.com/docs/en/packaging/SOT_6_05-08-1636.pdf
footprint LT-S6-6-TSOT-23_N (SOT23, 6-Leads, Body 2.9x1.75mm, Pitch 0.95mm, IPC Medium Density)
footprint LT-S6-6-TSOT-23_L (SOT23, 6-Leads, Body 2.9x1.75mm, Pitch 0.95mm, IPC High Density)
footprint LT-S6-6-TSOT-23_M (SOT23, 6-Leads, Body 2.9x1.75mm, Pitch 0.95mm, IPC Low Density)
pins: 1 VOUT (power) "Charge Pump Output. The VOUT voltage will depend on the MODE pin input voltage. VOUT = 0V in shutdown mode, VOUT = VIN in 3V mode and VOUT = 5V in 5V mode. The LTC1986 provides a 2.9V regulated output when the part is in 3V (See Datasheet)", 2 GND (power) "Ground. Connect to a ground plane for best performance.", 3 MODE (in) "MODE Input Pin. The voltage on this pin determines the operating mode of the LTC1986. It operates in either shutdown mode, 3V mode or 5V mode depending on the MODE pin voltage with respect to VIN.MODE Input Pin. The voltage (See Datasheet)", 4 C1- "Charge Pump Flying Capacitor Negative Terminal.", 5 C1+ "Charge Pump Flying Capacitor Positive Terminal.", 6 VIN (power) "Input Supply Voltage. Bypass VIN with a>=0.1uF low ESR capacitor to ground."

## LTC1986ES6#PBF
designator U?
3 V / 5 V SIM Power Supply, 2.6 to 4.4 V Vin, 5 V Vout, 6-pin SOT23 (S6-6), -40 to 85 degC, Pb-Free; Manufacturer: Linear Technology; PartNumber: LTC1986ES6#PBF; Frequency(kHz): 900; Ishutdown(uA): 0.001; Isupply(mA): 0.014; Max Iout(mA): 10; Vin Max(V): 4.4; Vin Min(V): 2.6; Voutput: 5V, Vin; DatasheetVersion: Rev. A; PackageVersion: Jun-10; PackageReference: S6-6; PackageDescription: 6-Pin Plastic TSOT-23, Body 2.9 x 1.63 mm, Pitch 0.95 mm; Supplier 1: Newark; Supplier Part Number 1: 78T2534; RoHS: TRUE; Mounting Technology: Surface Mount; Code_JEDEC: MO-193; ComponentLink1Description: Manufacturer URL; ComponentLink1URL: http://www.linear.com/; ComponentLink2Description: Datasheet; ComponentLink2URL: http://cds.linear.com/docs/en/datasheet/1986fa.pdf; ComponentLink3Description: Package Specification; ComponentLink3URL: http://cds.linear.com/docs/en/packaging/SOT_6_05-08-1636.pdf
footprint LT-S6-6-TSOT-23_N (SOT23, 6-Leads, Body 2.9x1.75mm, Pitch 0.95mm, IPC Medium Density)
footprint LT-S6-6-TSOT-23_L (SOT23, 6-Leads, Body 2.9x1.75mm, Pitch 0.95mm, IPC High Density)
footprint LT-S6-6-TSOT-23_M (SOT23, 6-Leads, Body 2.9x1.75mm, Pitch 0.95mm, IPC Low Density)
pins: 1 VOUT (power) "Charge Pump Output. The VOUT voltage will depend on the MODE pin input voltage. VOUT = 0V in shutdown mode, VOUT = VIN in 3V mode and VOUT = 5V in 5V mode. The LTC1986 provides a 2.9V regulated output when the part is in 3V (See Datasheet)", 2 GND (power) "Ground. Connect to a ground plane for best performance.", 3 MODE (in) "MODE Input Pin. The voltage on this pin determines the operating mode of the LTC1986. It operates in either shutdown mode, 3V mode or 5V mode depending on the MODE pin voltage with respect to VIN.MODE Input Pin. The voltage (See Datasheet)", 4 C1- "Charge Pump Flying Capacitor Negative Terminal.", 5 C1+ "Charge Pump Flying Capacitor Positive Terminal.", 6 VIN (power) "Input Supply Voltage. Bypass VIN with a>=0.1uF low ESR capacitor to ground."

## LTC1986ES6#TR
designator U?
3 V / 5 V SIM Power Supply, 2.6 to 4.4 V Vin, 5 V Vout, 6-pin SOT23 (S6-6), -40 to 85 degC, Tape and Reel; Manufacturer: Linear Technology; PartNumber: LTC1986ES6#TR; Frequency(kHz): 900; Ishutdown(uA): 0.001; Isupply(mA): 0.014; Max Iout(mA): 10; Vin Max(V): 4.4; Vin Min(V): 2.6; Voutput: 5V, Vin; DatasheetVersion: Rev. A; PackageVersion: Jun-10; PackageReference: S6-6; PackageDescription: 6-Pin Plastic TSOT-23, Body 2.9 x 1.63 mm, Pitch 0.95 mm; Supplier 1: Digi-Key; Supplier Part Number 1: LTC1986ES6#TR-ND; Packing: Tape and Reel; RoHS: FALSE; Mounting Technology: Surface Mount; Code_JEDEC: MO-193; ComponentLink1Description: Manufacturer URL; ComponentLink1URL: http://www.linear.com/; ComponentLink2Description: Datasheet; ComponentLink2URL: http://cds.linear.com/docs/en/datasheet/1986fa.pdf; ComponentLink3Description: Package Specification; ComponentLink3URL: http://cds.linear.com/docs/en/packaging/SOT_6_05-08-1636.pdf
footprint LT-S6-6-TSOT-23_N (SOT23, 6-Leads, Body 2.9x1.75mm, Pitch 0.95mm, IPC Medium Density)
footprint LT-S6-6-TSOT-23_L (SOT23, 6-Leads, Body 2.9x1.75mm, Pitch 0.95mm, IPC High Density)
footprint LT-S6-6-TSOT-23_M (SOT23, 6-Leads, Body 2.9x1.75mm, Pitch 0.95mm, IPC Low Density)
pins: 1 VOUT (power) "Charge Pump Output. The VOUT voltage will depend on the MODE pin input voltage. VOUT = 0V in shutdown mode, VOUT = VIN in 3V mode and VOUT = 5V in 5V mode. The LTC1986 provides a 2.9V regulated output when the part is in 3V (See Datasheet)", 2 GND (power) "Ground. Connect to a ground plane for best performance.", 3 MODE (in) "MODE Input Pin. The voltage on this pin determines the operating mode of the LTC1986. It operates in either shutdown mode, 3V mode or 5V mode depending on the MODE pin voltage with respect to VIN.MODE Input Pin. The voltage (See Datasheet)", 4 C1- "Charge Pump Flying Capacitor Negative Terminal.", 5 C1+ "Charge Pump Flying Capacitor Positive Terminal.", 6 VIN (power) "Input Supply Voltage. Bypass VIN with a>=0.1uF low ESR capacitor to ground."

## LTC1986ES6#TRM
designator U?
3 V / 5 V SIM Power Supply, 2.6 to 4.4 V Vin, 5 V Vout, 6-pin SOT23 (S6-6), -40 to 85 degC, Mini Tape and Reel; Manufacturer: Linear Technology; PartNumber: LTC1986ES6#TRM; Frequency(kHz): 900; Ishutdown(uA): 0.001; Isupply(mA): 0.014; Max Iout(mA): 10; Vin Max(V): 4.4; Vin Min(V): 2.6; Voutput: 5V, Vin; DatasheetVersion: Rev. A; PackageVersion: Jun-10; PackageReference: S6-6; PackageDescription: 6-Pin Plastic TSOT-23, Body 2.9 x 1.63 mm, Pitch 0.95 mm; Supplier 1: Digi-Key; Supplier Part Number 1: LTC1986ES6#TRM-ND; Packing: Mini Tape and Reel; RoHS: FALSE; Mounting Technology: Surface Mount; Code_JEDEC: MO-193; ComponentLink1Description: Manufacturer URL; ComponentLink1URL: http://www.linear.com/; ComponentLink2Description: Datasheet; ComponentLink2URL: http://cds.linear.com/docs/en/datasheet/1986fa.pdf; ComponentLink3Description: Package Specification; ComponentLink3URL: http://cds.linear.com/docs/en/packaging/SOT_6_05-08-1636.pdf
footprint LT-S6-6-TSOT-23_N (SOT23, 6-Leads, Body 2.9x1.75mm, Pitch 0.95mm, IPC Medium Density)
footprint LT-S6-6-TSOT-23_L (SOT23, 6-Leads, Body 2.9x1.75mm, Pitch 0.95mm, IPC High Density)
footprint LT-S6-6-TSOT-23_M (SOT23, 6-Leads, Body 2.9x1.75mm, Pitch 0.95mm, IPC Low Density)
pins: 1 VOUT (power) "Charge Pump Output. The VOUT voltage will depend on the MODE pin input voltage. VOUT = 0V in shutdown mode, VOUT = VIN in 3V mode and VOUT = 5V in 5V mode. The LTC1986 provides a 2.9V regulated output when the part is in 3V (See Datasheet)", 2 GND (power) "Ground. Connect to a ground plane for best performance.", 3 MODE (in) "MODE Input Pin. The voltage on this pin determines the operating mode of the LTC1986. It operates in either shutdown mode, 3V mode or 5V mode depending on the MODE pin voltage with respect to VIN.MODE Input Pin. The voltage (See Datasheet)", 4 C1- "Charge Pump Flying Capacitor Negative Terminal.", 5 C1+ "Charge Pump Flying Capacitor Positive Terminal.", 6 VIN (power) "Input Supply Voltage. Bypass VIN with a>=0.1uF low ESR capacitor to ground."

## LTC1986ES6#TRMPBF
designator U?
3 V / 5 V SIM Power Supply, 2.6 to 4.4 V Vin, 5 V Vout, 6-pin SOT23 (S6-6), -40 to 85 degC, Pb-Free, Mini Tape and Reel; Manufacturer: Linear Technology; PartNumber: LTC1986ES6#TRMPBF; Frequency(kHz): 900; Ishutdown(uA): 0.001; Isupply(mA): 0.014; Max Iout(mA): 10; Vin Max(V): 4.4; Vin Min(V): 2.6; Voutput: 5V, Vin; DatasheetVersion: Rev. A; PackageVersion: Jun-10; PackageReference: S6-6; PackageDescription: 6-Pin Plastic TSOT-23, Body 2.9 x 1.63 mm, Pitch 0.95 mm; Supplier 1: Digi-Key; Supplier Part Number 1: LTC1986ES6#TRMPBF-ND; Packing: Mini Tape and Reel; RoHS: TRUE; Mounting Technology: Surface Mount; Code_JEDEC: MO-193; ComponentLink1Description: Manufacturer URL; ComponentLink1URL: http://www.linear.com/; ComponentLink2Description: Datasheet; ComponentLink2URL: http://cds.linear.com/docs/en/datasheet/1986fa.pdf; ComponentLink3Description: Package Specification; ComponentLink3URL: http://cds.linear.com/docs/en/packaging/SOT_6_05-08-1636.pdf
footprint LT-S6-6-TSOT-23_N (SOT23, 6-Leads, Body 2.9x1.75mm, Pitch 0.95mm, IPC Medium Density)
footprint LT-S6-6-TSOT-23_L (SOT23, 6-Leads, Body 2.9x1.75mm, Pitch 0.95mm, IPC High Density)
footprint LT-S6-6-TSOT-23_M (SOT23, 6-Leads, Body 2.9x1.75mm, Pitch 0.95mm, IPC Low Density)
pins: 1 VOUT (power) "Charge Pump Output. The VOUT voltage will depend on the MODE pin input voltage. VOUT = 0V in shutdown mode, VOUT = VIN in 3V mode and VOUT = 5V in 5V mode. The LTC1986 provides a 2.9V regulated output when the part is in 3V (See Datasheet)", 2 GND (power) "Ground. Connect to a ground plane for best performance.", 3 MODE (in) "MODE Input Pin. The voltage on this pin determines the operating mode of the LTC1986. It operates in either shutdown mode, 3V mode or 5V mode depending on the MODE pin voltage with respect to VIN.MODE Input Pin. The voltage (See Datasheet)", 4 C1- "Charge Pump Flying Capacitor Negative Terminal.", 5 C1+ "Charge Pump Flying Capacitor Positive Terminal.", 6 VIN (power) "Input Supply Voltage. Bypass VIN with a>=0.1uF low ESR capacitor to ground."

## LTC1986ES6#TRPBF
designator U?
3 V / 5 V SIM Power Supply, 2.6 to 4.4 V Vin, 5 V Vout, 6-pin SOT23 (S6-6), -40 to 85 degC, Pb-Free, Tape and Reel; Manufacturer: Linear Technology; PartNumber: LTC1986ES6#TRPBF; Frequency(kHz): 900; Ishutdown(uA): 0.001; Isupply(mA): 0.014; Max Iout(mA): 10; Vin Max(V): 4.4; Vin Min(V): 2.6; Voutput: 5V, Vin; DatasheetVersion: Rev. A; PackageVersion: Jun-10; PackageReference: S6-6; PackageDescription: 6-Pin Plastic TSOT-23, Body 2.9 x 1.63 mm, Pitch 0.95 mm; Supplier 1: Digi-Key; Supplier Part Number 1: LTC1986ES6#TRPBF-ND; Packing: Tape and Reel; RoHS: TRUE; Mounting Technology: Surface Mount; Code_JEDEC: MO-193; ComponentLink1Description: Manufacturer URL; ComponentLink1URL: http://www.linear.com/; ComponentLink2Description: Datasheet; ComponentLink2URL: http://cds.linear.com/docs/en/datasheet/1986fa.pdf; ComponentLink3Description: Package Specification; ComponentLink3URL: http://cds.linear.com/docs/en/packaging/SOT_6_05-08-1636.pdf
footprint LT-S6-6-TSOT-23_N (SOT23, 6-Leads, Body 2.9x1.75mm, Pitch 0.95mm, IPC Medium Density)
footprint LT-S6-6-TSOT-23_L (SOT23, 6-Leads, Body 2.9x1.75mm, Pitch 0.95mm, IPC High Density)
footprint LT-S6-6-TSOT-23_M (SOT23, 6-Leads, Body 2.9x1.75mm, Pitch 0.95mm, IPC Low Density)
pins: 1 VOUT (power) "Charge Pump Output. The VOUT voltage will depend on the MODE pin input voltage. VOUT = 0V in shutdown mode, VOUT = VIN in 3V mode and VOUT = 5V in 5V mode. The LTC1986 provides a 2.9V regulated output when the part is in 3V (See Datasheet)", 2 GND (power) "Ground. Connect to a ground plane for best performance.", 3 MODE (in) "MODE Input Pin. The voltage on this pin determines the operating mode of the LTC1986. It operates in either shutdown mode, 3V mode or 5V mode depending on the MODE pin voltage with respect to VIN.MODE Input Pin. The voltage (See Datasheet)", 4 C1- "Charge Pump Flying Capacitor Negative Terminal.", 5 C1+ "Charge Pump Flying Capacitor Positive Terminal.", 6 VIN (power) "Input Supply Voltage. Bypass VIN with a>=0.1uF low ESR capacitor to ground."

## LTC3203BEDD
designator U?
500 mA Output Current Low Noise Dual Mode Step-Up Charge Pump, 2.7 to 5.5 V Vin, Adjustable Vout, 10-pin SON (DD-10), -40 to 85 degC; Manufacturer: Linear Technology; PartNumber: LTC3203BEDD; Frequency(kHz): 1000; Isupply(mA): 9; Max Iout(mA): 500; Max Number of LEDs(#): 8 (parallel); Vin Max(V): 5.5; Vin Min(V): 2.7; Voutput: Adj; DatasheetVersion: Rev. A; PackageVersion: Rev. C, 06/2010; PackageReference: DD-10; PackageDescription: 10-Pin Plastic DFN, Body 3 x 3 mm, Pitch 0.5 mm; RoHS: FALSE; Mounting Technology: Surface Mount; Code_JEDEC: MO-229; ComponentLink1Description: Manufacturer URL; ComponentLink1URL: http://www.linear.com/; ComponentLink2Description: Datasheet; ComponentLink2URL: http://cds.linear.com/docs/en/datasheet/32031fa.pdf; ComponentLink3Description: Package Specification; ComponentLink3URL: http://cds.linear.com/docs/en/packaging/DFN_10_05-08-1699.pdf
footprint LT-DD-10_V (SON, 10-Leads, Body 3x3mm, Pitch 0.5mm, Thermal Pad 2.38x1.65mm)
pins: 1 C2+ "Flying Capacitor 2 Positive Terminal (C2).", 2 VOUT (power) "Regulated Output Voltage. VOUT should be bypassed with a low ESR ceramic capacitor as close to the pin as possible for best performance. The capacitor should have greater than 4.7uF capacitance under all conditions.", 3 C1+ "Flying Capacitor 1 Positive Terminal (C1).", 4 ~{SHDN} (in) "Active Low Shutdown Input. A low on S\H\D\N\ puts the LTC3203/LTC3203-1/LTC3203B/LTC3203B-1 in low current shutdown mode. Do not float the S\H\D\N\ pin.", 5 FB (in) "Feedback. The voltage on this pin is compared to the internal reference voltage (0.91V) by the error amplifier to keep the output in regulation. An external resistor divider is required between VOUT and FB to program the (See Datasheet)", 6 MODE (in) "Mode Selection Input. The LTC3203/ LTC3203-1/LTC3203B/LTC3203B-1 operates in 1.5x mode if the MODE pin is greater than VMODEH, which gives higher charge pump efficiency. If the MODE pin is less than VMODEL, the (See Datasheet)", 7 VIN (power) "Input Supply Voltage. VIN should be bypassed with a more than 2.2uF low ESR ceramic capacitor to GND.", 8 C2- "Flying Capacitor 2 Negative Terminal (C2).", 9 GND (power) "Ground. This pin should be connected directly to a low impedance ground plane.", 10 C1- "Flying Capacitor 1 Negative Terminal (C1).", 11 EP (power) "Ground. This pin must be soldered to the PCB for electrical contact and rated thermal performance."